# EAGLE library part HEADER-2X10 (library Header and Connector)
Header - 2X10
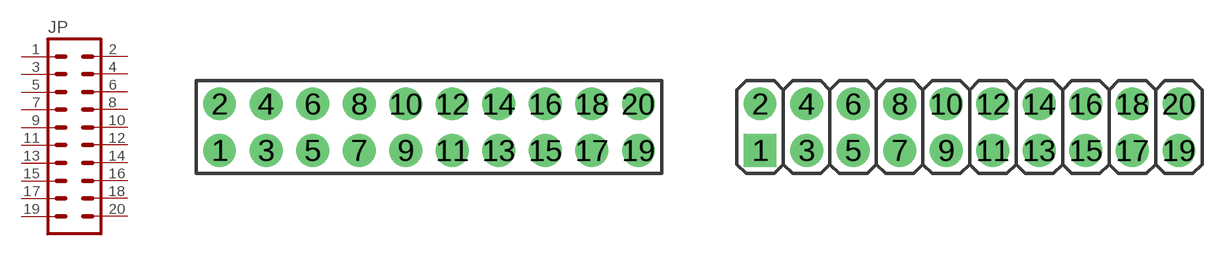
[diagram p15: symbol with the pads of HDR-F2X10; footprints HDR-F2X10, HDR-M2X10]

Designator prefix JP

## HEADER-2X10_(FEMALE) (CYTRON-PC: CN-PH-F240S; DESC: Female Header - 2x40 Ways; VALUE: 10/40 Ways)  [HDR-F2X10]
1  1  pas
2  2  pas
3  3  pas
4  4  pas
5  5  pas
6  6  pas
7  7  pas
8  8  pas
9  9  pas
10  10  pas
11  11  pas
12  12  pas
13  13  pas
14  14  pas
15  15  pas
16  16  pas
17  17  pas
18  18  pas
19  19  pas
20  20  pas

## HEADER-2X10_(MALE) (CYTRON-PC: CN-PH-M240S; DESC: Male Header - 2x40 Ways; VALUE: 10/40 Ways)  [HDR-M2X10]
Pads as for HDR-F2X10

## HEADER-2X10_(BOX) (CYTRON-PC: CN-IDC-BOX-20; DESC: 20 Ways Straight Box Header)  [IDC-2X10]
Pads as for HDR-F2X10

## Footprint HDR-F2X10 (pad centres in mm)
Female Header - 2X10
drill 1.016 pad 1.778: 1 0,0; 2 0,2.54; 3 2.54,0; 4 2.54,2.54; 5 5.08,0; 6 5.08,2.54; 7 7.62,0; 8 7.62,2.54; 9 10.16,0; 10 10.16,2.54; 11 12.7,0; 12 12.7,2.54; 13 15.24,0; 14 15.24,2.54; 15 17.78,0; 16 17.78,2.54; 17 20.32,0; 18 20.32,2.54; 19 22.86,0; 20 22.86,2.54

## Footprint HDR-M2X10 (pad centres in mm)
Male Header - 2X10
drill 1.016 pad 1.778 square: 1 0,0
drill 1.016 pad 1.778: 2 0,2.54; 3 2.54,0; 4 2.54,2.54; 5 5.08,0; 6 5.08,2.54; 7 7.62,0; 8 7.62,2.54; 9 10.16,0; 10 10.16,2.54; 11 12.7,0; 12 12.7,2.54; 13 15.24,0; 14 15.24,2.54; 15 17.78,0; 16 17.78,2.54; 17 20.32,0; 18 20.32,2.54; 19 22.86,0; 20 22.86,2.54

## Footprint IDC-2X10 (pad centres in mm)
drill 1.016 pad 1.778: 1 5.032,3.318; 2 5.032,5.858; 3 7.572,3.318; 4 7.572,5.858; 5 10.112,3.318; 6 10.112,5.858; 7 12.652,3.318; 8 12.652,5.858; 9 15.192,3.318; 10 15.192,5.858; 11 17.732,3.318; 12 17.732,5.858; 13 20.272,3.318; 14 20.272,5.858; 15 22.812,3.318; 16 22.812,5.858; 17 25.352,3.318; 18 25.352,5.858; 19 27.892,3.318; 20 27.892,5.858